# Altium integrated library TE0723.IntLib: 37 symbols
Pins are listed as number, name and electrical type; pins without a type are passive.

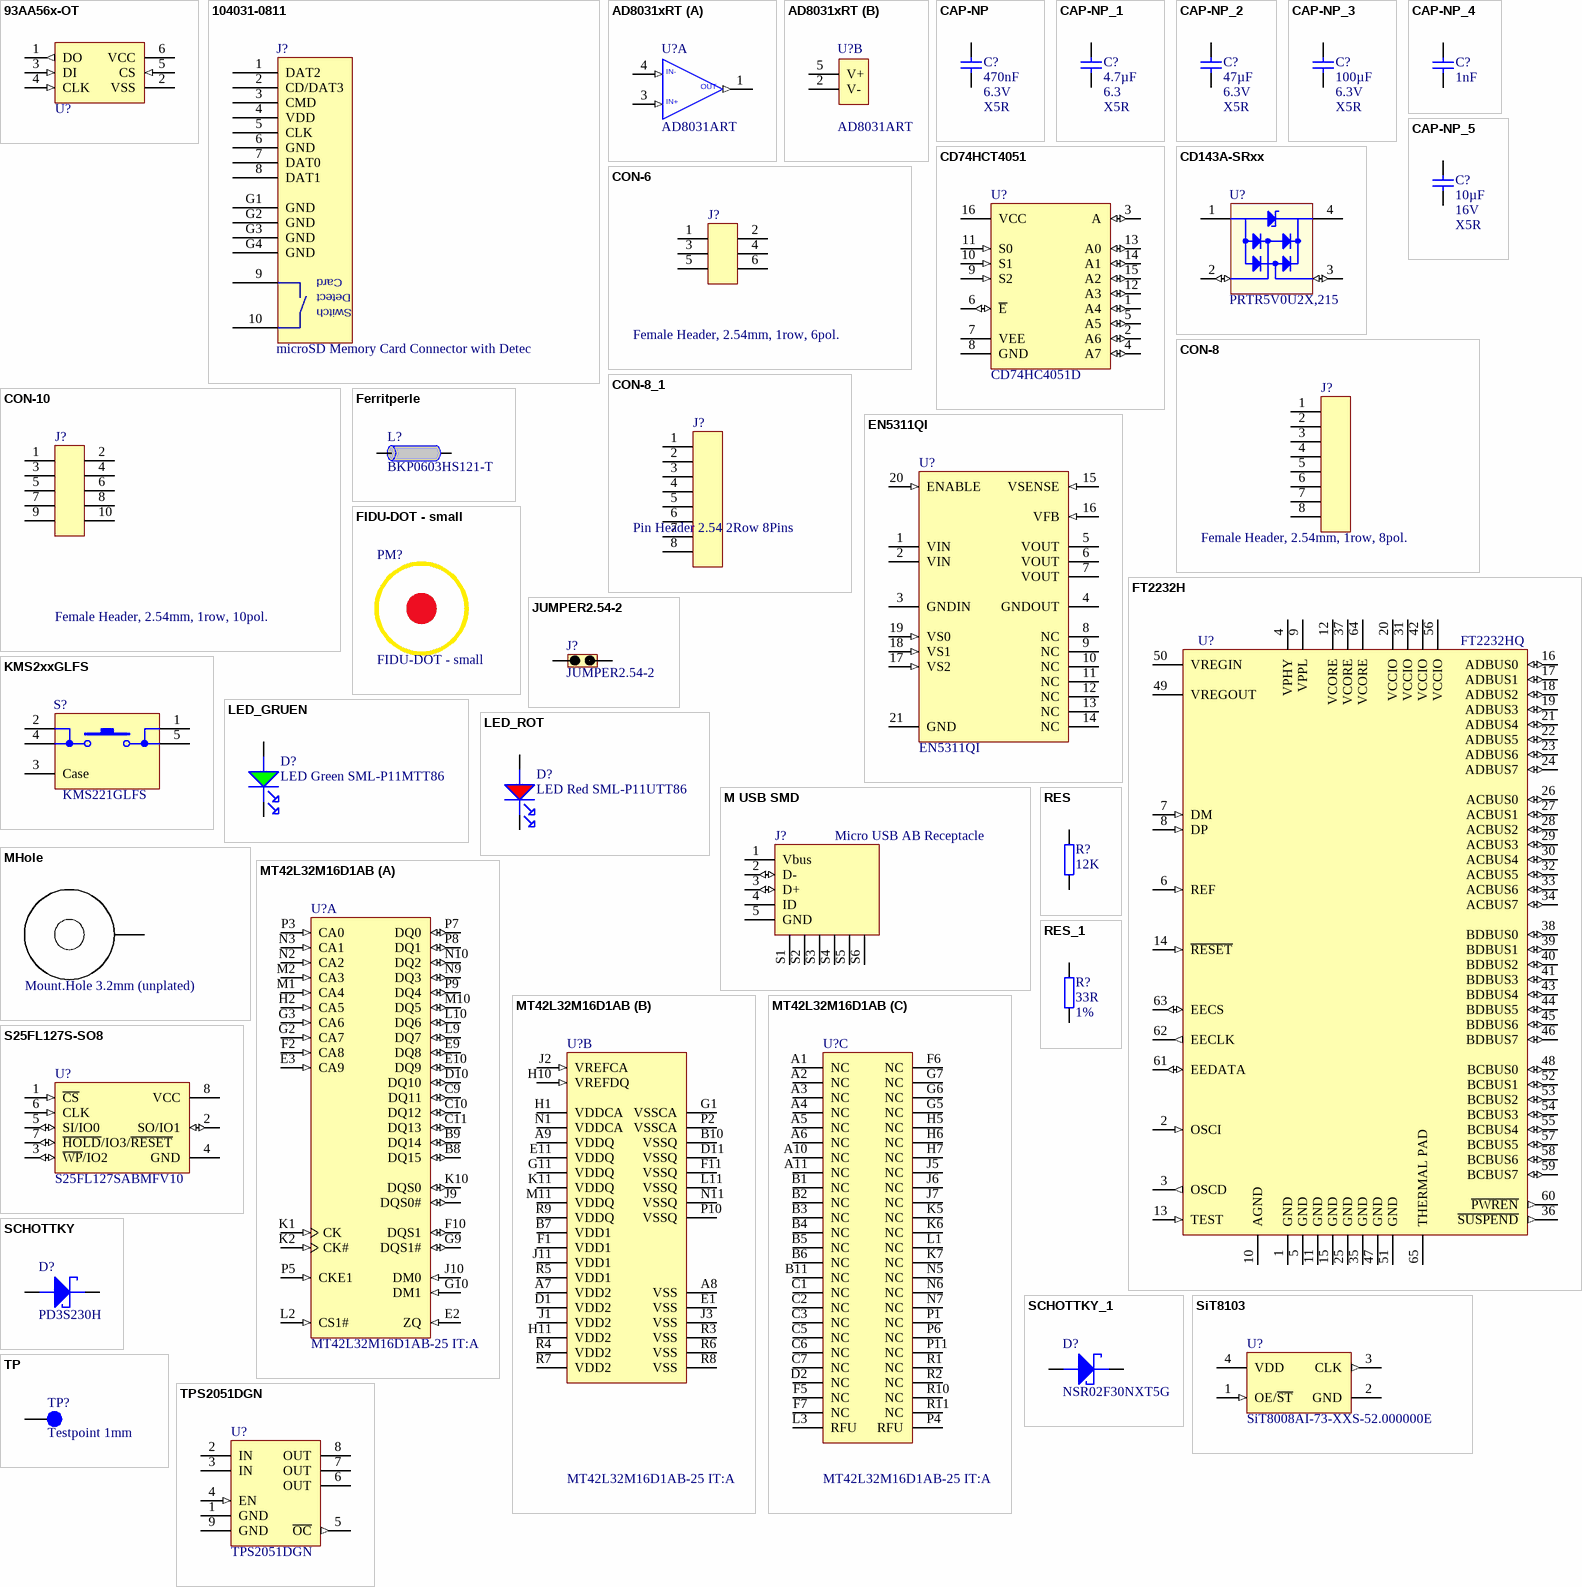
[diagram p0: symbols 93AA56x-OT to TPS2051DGN]

## 93AA56x-OT
designator U?, comment 93AA56BT-I/OT  (value not drawn)
AN: 24730; Trenz-Stock: Yes; Mixed: SMT; Case: SOT23-6; HelpURL: B:\AD\adlib\datasheet\93AA56A; Preferred: Yes
footprint SOT95P280X145-6N
pins: 1 DO (out), 2 VSS (power), 3 DI (in), 4 CLK (in), 5 CS (in), 6 VCC (power)

## 104031-0811
designator J?, comment microSD Memory Card Connector with Detec
microSD Memory Card Connector with Detect Switch; AN: 26322; Mixed: SMT; Trenz-Stock: Yes; Case: microSD; HelpURL: B:\AD\adlib\datasheet\104031-0811
footprint 104031-0811
pins: 1 DAT2, 2 CD/DAT3, 3 CMD, 4 VDD, 5 CLK, 6 GND, 7 DAT0, 8 DAT1, 9 CDSW, 10 CDSW, G1 GND, G2 GND, G3 GND, G4 GND
text: Card; Detect; Switch

## AD8031xRT
designator U?, comment AD8031ART
AN: 25377; Mixed: SMT; Trenz-Stock: Yes; Case: SOT23-5; HelpURL: B:\AD\adlib\datasheet\AD8031
footprint SOT95P280X145-5N
part A pins: 1 OUT (out), 3 IN+ (in), 4 IN- (in)
part B pins: 2 V- (power), 5 V+ (power)

## CAP-NP
designator C?, comment 470nF  Voltage: 6.3V  Technology: X5R
KON 470nF X5R 6.3V SMD 20%; AN: 24921; Value: 470n; Mixed: SMT; Preferred: Yes; Case: 0603 (0201); Tolerance: 20%
footprint CAPC0603X33N
pins: 1, 2

## CAP-NP_1
designator C?, comment 4.7µF  Voltage: 6.3  Technology: X5R
KON 4.7µF 6.3V X5R SMD 20%; AN: 24719; Mixed: SMT; Value: 4.7u; Preferred: Yes; Case: 1005 (0402); Tolerance: 20%
footprint CAPC1005X60N
pins: 1, 2

## CAP-NP_2
designator C?, comment 47µF  Voltage: 6.3V  Technology: X5R
KON 47µF 6,3V  X5R SMD 20%; AN: 24718; Mixed: SMT; Value: 47u; Preferred: Yes; Case: 2012 (0805); Tolerance: 20%
footprint CAPC2012X135N
pins: 1, 2

## CAP-NP_3
designator C?, comment 100µF  Voltage: 6.3V  Technology: X5R
KON 100µF 6,3V X5R SMD 20%; AN: 23116; Mixed: SMT; Value: 100u; Preferred: Yes; Case: 3216 (1206); Tolerance: 20%
footprint CAPC3216X180N
pins: 1, 2

## CAP-NP_4
designator C?, comment 1nF
KON 1nF 50V SMD AEC-Q200; AN: 26184; Tolerance: 10%; Mixed: SMT; Value: 1n; Case: 1005 (0402); Voltage: 50V; Technology: X7R
footprint CAPC1005X55N
pins: 1, 2

## CAP-NP_5
designator C?, comment 10µF  Voltage: 16V  Technology: X5R
KON 10µF 16V X5R SMD 20%; AN: 25341; Mixed: SMT; Value: 10u; Preferred: Yes; Case: 1608 (0603); Tolerance: 20%
footprint CAPC1608X90N
pins: 1, 2

## CD74HCT4051
designator U?, comment CD74HC4051D
AN: 26538; Mixed: SMT; Trenz-Stock: Yes; Case: SOIC16 D (R-PDSO-G16); HelpURL: B:\AD\adlib\datasheet\74HCx4051
footprint SOIC127P600X175-16N
pins: 1 A4 (io), 2 A6 (io), 3 A (io), 4 A7 (io), 5 A5 (io), 6 ~{E} (io), 7 VEE (power), 8 GND (power), 9 S2 (in), 10 S1 (in), 11 S0 (in), 12 A3 (io), 13 A0 (io), 14 A1 (io), 15 A2 (io), 16 VCC (power)

## CD143A-SRxx
designator U?, comment PRTR5V0U2X,215
AN: 24840; Mixed: SMT; Preferred: Yes; Case: SOT143; HelpURL: B:\AD\adlib\datasheet\CD143A-SR05
footprint SOT190P229X114-4N
pins: 1 GND, 2 I/O (io), 3 I/O (io), 4 REF

## CON-6
designator J?, comment Female Header, 2.54mm, 1row, 6pol.
Buchsenleiste 1 reihig präz. 6 pol.; AN: 26388; Mixed: THT
footprint BUCHSENLEISTE-2.54-6-1R
pins: 1, 2, 3, 4, 5, 6
1 alternate drawing of the same symbol

## CON-8
designator J?, comment Female Header, 2.54mm, 1row, 8pol.
Buchsenleiste 1 reihig präz. 8 pol.; AN: 26387; Mixed: THT
footprint BUCHSENLEISTE-2.54-8-1R
pins: 1, 2, 3, 4, 5, 6, 7, 8
1 alternate drawing of the same symbol

## CON-8_1
designator J?, comment Pin Header 2.54 2Row 8Pins
Stiftleiste gerade 2-reihig, 8pol.; AN: 23904; Mixed: THT; Trenz-Stock: Yes
footprint STIFTLEISTE2_54 OG 2R-8
pins: 1, 2, 3, 4, 5, 6, 7, 8
1 alternate drawing of the same symbol

## CON-10
designator J?, comment Female Header, 2.54mm, 1row, 10pol.
Buchsenleiste 1 reihig präz. 10 pol.; AN: 26386; Mixed: THT
footprint BUCHSENLEISTE-2.54-10-1R
pins: 1, 2, 3, 4, 5, 6, 7, 8, 9, 10
1 alternate drawing of the same symbol

## EN5311QI
designator U?
AN: 25492; Mixed: SMT; Trenz-Stock: Yes; Case: QFN20; HelpURL: B:\AD\adlib\datasheet\EN5311QI; Preferred: Yes
footprint EN5311QI
pins: 1 VIN (power), 2 VIN (power), 3 GNDIN (power), 4 GNDOUT (power), 5 VOUT (power), 6 VOUT (power), 7 VOUT (power), 8 NC, 9 NC, 10 NC, 11 NC, 12 NC, 13 NC, 14 NC, 15 VSENSE (in), 16 VFB (in), 17 VS2 (in), 18 VS1 (in), 19 VS0 (in), 20 ENABLE (in), 21 GND (power)

## Ferritperle
designator L?, comment BKP0603HS121-T
Ferritdurchführung SMD 0201; AN: 25393; Trenz-Stock: Yes; Mixed: SMT; Tolerance: 25%; Case: 0603 (0201); HelpURL: B:\AD\adlib\datasheet\MULTILAYER CHIP BEAD INDUCTORS BK; Preferred: Yes
footprint INDC0603X33N
pins: 1, 2

## FIDU-DOT - small
designator PM?
AN: 22905; Mixed: FIDU
footprint FIDU-DOT - small

## FT2232H
designator U?, comment FT2232HQ
AN: 24727; Trenz-Stock: Yes; Mixed: SMT; Case: QFN64; HelpURL: B:\AD\adlib\datasheet\FT2232H; Preferred: Yes
footprint QFN50P900X900X100-65N-445
pins: 1 GND (power), 2 OSCI (in), 3 OSCD (out), 4 VPHY (power), 5 GND (power), 6 REF (in), 7 DM (in), 8 DP (in), 9 VPPL (power), 10 AGND (power), 11 GND (power), 12 VCORE (power), 13 TEST (in), 14 ~{RESET} (in), 15 GND (power), 16 ADBUS0 (io), 17 ADBUS1 (io), 18 ADBUS2 (io), 19 ADBUS3 (io), 20 VCCIO (power), 21 ADBUS4 (io), 22 ADBUS5 (io), 23 ADBUS6 (io), 24 ADBUS7 (io), 25 GND (power), 26 ACBUS0 (io), 27 ACBUS1 (io), 28 ACBUS2 (io), 29 ACBUS3 (io), 30 ACBUS4 (io), 31 VCCIO (power), 32 ACBUS5 (io), 33 ACBUS6 (io), 34 ACBUS7 (io), 35 GND (power), 36 ~{SUSPEND} (out), 37 VCORE (power), 38 BDBUS0 (io), 39 BDBUS1 (io), 40 BDBUS2 (io), 41 BDBUS3 (io), 42 VCCIO (power), 43 BDBUS4 (io), 44 BDBUS5 (io), 45 BDBUS6 (io), 46 BDBUS7 (io), 47 GND (power), 48 BCBUS0 (io), 49 VREGOUT (power), 50 VREGIN (power), 51 GND (power), 52 BCBUS1 (io), 53 BCBUS2 (io), 54 BCBUS3 (io), 55 BCBUS4 (io), 56 VCCIO (power), 57 BCBUS5 (io), 58 BCBUS6 (io), 59 BCBUS7 (io), 60 ~{PWREN} (out), 61 EEDATA (io), 62 EECLK (out), 63 EECS (io), 64 VCORE (power), 65 THERMAL PAD

## JUMPER2.54-2
designator J?
Stiftleiste gerade 1-reihig, 2pol.; AN: 22330; Mixed: THT; Trenz-Stock: Yes
footprint JUMPER2_54-2
pins: 1, 2
1 alternate drawing of the same symbol

## KMS2xxGLFS
designator S?, comment KMS221GLFS
KMS221GLFS - SWITCH, SPST, 0.05A, 32VDC, SMD; AN: 26229; Mixed: SMT; HelpURL: B:\AD\adlib\datasheet\KMS
footprint KMS2xxGLFS
pins: 1, 2, 3 Case, 4, 5

## LED_GRUEN
designator D?, comment LED Green SML-P11MTT86
LED Grün SML-P11MTT86 SMD; AN: 24211; Mixed: SMT; Preferred: Yes; Case: 1005 (0402); HelpURL: B:\AD\adlib\datasheet\SML-P1
footprint LEDC1006X25N_GREEN
pins: A, K

## LED_ROT
designator D?, comment LED Red SML-P11UTT86
LED Rot SML-P11UTT86 SMD; AN: 24212; Mixed: SMT; Preferred: Yes; Case: 1005 (0402); HelpURL: B:\AD\adlib\datasheet\SML-P1
footprint LEDC1006X25N_RED
pins: A, K

## M USB SMD
designator J?, comment Micro USB AB Receptacle
Micro USB AB Buchse; AN: 25126; Mixed: SMT; Trenz-Stock: Yes; Case: Micro USB AB; HelpURL: B:\AD\adlib\datasheet\USB\USB_2.0_Spec\Micro-USB_final
footprint Micro USB ZX62-xx-5PA
pins: 1 Vbus (power), 2 D- (io), 3 D+ (io), 4 ID, 5 GND (power), S1, S2, S3, S4, S5, S6

## MHole
designator H?, comment Mount.Hole 3.2mm (unplated)  (no BOM)
AN: 24910; Mixed: THT
footprint MHole3_2mm-UNPLATED
pins: 1

## MT42L32M16D1AB
designator U?, comment MT42L32M16D1AB-25 IT:A
AN: 26300; Mixed: SMT; Case: BGA121; HelpURL: B:\AD\adlib\datasheet\MT42LxxMxxD1
footprint BGA121C50P15X11_800X650X80B32N
part A pins: B8 DQ15 (io) "Data input/output: Bidirectional data bus.", B9 DQ14 (io) "Data input/output: Bidirectional data bus.", C9 DQ11 (io) "Data input/output: Bidirectional data bus.", C10 DQ12 (io) "Data input/output: Bidirectional data bus.", C11 DQ13 (io) "Data input/output: Bidirectional data bus.", D10 DQ10 (io) "Data input/output: Bidirectional data bus.", E2 ZQ (in) "External impedance (240 ohm): This signal is used to calibrate the device output impedance.", E3 CA9 (in) "Command/address inputs: Provide the command and address inputs according to the command truth table.", E9 DQ8 (io) "Data input/output: Bidirectional data bus.", E10 DQ9 (io) "Data input/output: Bidirectional data bus.", F2 CA8 (in) "Command/address inputs: Provide the command and address inputs according to the command truth table.", F10 DQS1 (io) "Data strobe: The data strobe is bidirectional (used for read and write data) and complementary (DQS and DQS#). It is edge-aligned output with read data and centered input with write data. DQS[1:0]/DQS[1:0]# is DQS for each (See Datasheet)", G2 CA7 (in) "Command/address inputs: Provide the command and address inputs according to the command truth table.", G3 CA6 (in) "Command/address inputs: Provide the command and address inputs according to the command truth table.", G9 DQS1# (io) "Data strobe: The data strobe is bidirectional (used for read and write data) and complementary (DQS and DQS#). It is edge-aligned output with read data and centered input with write data. DQS[1:0]/DQS[1:0]# is DQS for each (See Datasheet)", G10 DM1 (in) "Input data mask: DM is an input mask signal for write data. Although DM balls are input-only, the DM loading is designed to match that of DQ and DQS balls. DM[1:0] is DM for each of the two data bytes, respectively.", H2 CA5 (in) "Command/address inputs: Provide the command and address inputs according to the command truth table.", J9 DQS0# (io) "Data strobe: The data strobe is bidirectional (used for read and write data) and complementary (DQS and DQS#). It is edge-aligned output with read data and centered input with write data. DQS[1:0]/DQS[1:0]# is DQS for each (See Datasheet)", J10 DM0 (in) "Input data mask: DM is an input mask signal for write data. Although DM balls are input-only, the DM loading is designed to match that of DQ and DQS balls. DM[1:0] is DM for each of the two data bytes, respectively.", K1 CK (in) "Clock: CK and CK# are differential clock inputs. All CA inputs are sampled on both rising and falling edges of CK. CS and CKE inputs are sampled at the rising edge of CK. AC timings are referenced to clock.", K2 CK# (in) "Clock: CK and CK# are differential clock inputs. All CA inputs are sampled on both rising and falling edges of CK. CS and CKE inputs are sampled at the rising edge of CK. AC timings are referenced to clock.", K10 DQS0 (io) "Data strobe: The data strobe is bidirectional (used for read and write data) and complementary (DQS and DQS#). It is edge-aligned output with read data and centered input with write data. DQS[1:0]/DQS[1:0]# is DQS for each (See Datasheet)", L2 CS1# (in) "Chip select: CS# is considered part of the command code and is sampled at the rising edge of CK.", L9 DQ7 (io) "Data input/output: Bidirectional data bus.", L10 DQ6 (io) "Data input/output: Bidirectional data bus.", M1 CA4 (in) "Command/address inputs: Provide the command and address inputs according to the command truth table.", M2 CA3 (in) "Command/address inputs: Provide the command and address inputs according to the command truth table.", M10 DQ5 (io) "Data input/output: Bidirectional data bus.", N2 CA2 (in) "Command/address inputs: Provide the command and address inputs according to the command truth table.", N3 CA1 (in) "Command/address inputs: Provide the command and address inputs according to the command truth table.", N9 DQ3 (io) "Data input/output: Bidirectional data bus.", N10 DQ2 (io) "Data input/output: Bidirectional data bus.", P3 CA0 (in) "Command/address inputs: Provide the command and address inputs according to the command truth table.", P5 CKE1 (in) "Clock enable: CKE HIGH activates and CKE LOW deactivates the internal clock signals, input buffers, and output drivers. Power-saving modes are entered and exited via CKE transitions. CKE is considered part of the command (See Datasheet)", P7 DQ0 (io) "Data input/output: Bidirectional data bus.", P8 DQ1 (io) "Data input/output: Bidirectional data bus.", P9 DQ4 (io) "Data input/output: Bidirectional data bus."
part B pins: A7 VDD2 (power) "Core power: Supply 2.", A8 VSS (power) "Common ground", A9 VDDQ (power) "DQ power supply: Isolated on the die for improved noise immunity.", B7 VDD1 (power) "Core power: Supply 1.", B10 VSSQ (power) "DQ ground: Isolated on the die for improved noise immunity.", D1 VDD2 (power) "Core power: Supply 2.", D11 VSSQ (power) "DQ ground: Isolated on the die for improved noise immunity.", E1 VSS (power) "Common ground", E11 VDDQ (power) "DQ power supply: Isolated on the die for improved noise immunity.", F1 VDD1 (power) "Core power: Supply 1.", F11 VSSQ (power) "DQ ground: Isolated on the die for improved noise immunity.", G1 VSSCA (power) "Command/address power supply: Command/address power supply.", G11 VDDQ (power) "DQ power supply: Isolated on the die for improved noise immunity.", H1 VDDCA (power) "Command/address power supply: Command/address power supply.", H10 VREFDQ (in) "Reference voltage:VREFDQ is reference for DQ input buffers.", H11 VDD2 (power) "Core power: Supply 2.", J1 VDD2 (power) "Core power: Supply 2.", J2 VREFCA (in) "Reference voltage: VREFCA is reference for command/address input buffers.", J3 VSS (power) "Common ground", J11 VDD1 (power) "Core power: Supply 1.", K11 VDDQ (power) "DQ power supply: Isolated on the die for improved noise immunity.", L11 VSSQ (power) "DQ ground: Isolated on the die for improved noise immunity.", M11 VDDQ (power) "DQ power supply: Isolated on the die for improved noise immunity.", N1 VDDCA (power) "Command/address power supply: Command/address power supply.", N11 VSSQ (power) "DQ ground: Isolated on the die for improved noise immunity.", P2 VSSCA (power) "Command/address ground: Isolated on the die for improved noise immunity.", P10 VSSQ (power) "DQ ground: Isolated on the die for improved noise immunity.", R3 VSS (power) "Common ground", R4 VDD2 (power) "Core power: Supply 2.", R5 VDD1 (power) "Core power: Supply 1.", R6 VSS (power) "Common ground", R7 VDD2 (power) "Core power: Supply 2.", R8 VSS (power) "Common ground", R9 VDDQ (power) "DQ power supply: Isolated on the die for improved noise immunity."
part C pins: A1 NC "No connect: Not internally connected.", A2 NC "No connect: Not internally connected.", A3 NC "No connect: Not internally connected.", A4 NC "No connect: Not internally connected.", A5 NC "No connect: Not internally connected.", A6 NC "No connect: Not internally connected.", A10 NC "No connect: Not internally connected.", A11 NC "No connect: Not internally connected.", B1 NC "No connect: Not internally connected.", B2 NC "No connect: Not internally connected.", B3 NC "No connect: Not internally connected.", B4 NC "No connect: Not internally connected.", B5 NC "No connect: Not internally connected.", B6 NC "No connect: Not internally connected.", B11 NC "No connect: Not internally connected.", C1 NC "No connect: Not internally connected.", C2 NC "No connect: Not internally connected.", C3 NC "No connect: Not internally connected.", C5 NC "No connect: Not internally connected.", C6 NC "No connect: Not internally connected.", C7 NC "No connect: Not internally connected.", D2 NC "No connect: Not internally connected.", F5 NC "No connect: Not internally connected.", F6 NC "No connect: Not internally connected.", F7 NC "No connect: Not internally connected.", G5 NC "No connect: Not internally connected.", G6 NC "No connect: Not internally connected.", G7 NC "No connect: Not internally connected.", H5 NC "No connect: Not internally connected.", H6 NC "No connect: Not internally connected.", H7 NC "No connect: Not internally connected.", J5 NC "No connect: Not internally connected.", J6 NC "No connect: Not internally connected.", J7 NC "No connect: Not internally connected.", K5 NC "No connect: Not internally connected.", K6 NC "No connect: Not internally connected.", K7 NC "No connect: Not internally connected.", L1 NC "No connect: Not internally connected.", L3 RFU, N5 NC "No connect: Not internally connected.", N6 NC "No connect: Not internally connected.", N7 NC "No connect: Not internally connected.", P1 NC "No connect: Not internally connected.", P4 RFU, P6 NC "No connect: Not internally connected.", P11 NC "No connect: Not internally connected.", R1 NC "No connect: Not internally connected.", R2 NC "No connect: Not internally connected.", R10 NC "No connect: Not internally connected.", R11 NC "No connect: Not internally connected."

## RES
designator R?, comment 12K
WID SMD 12K 1% 0,063W; AN: 22598; Mixed: SMT; Preferred: Yes; Case: 1005 (0402); Value: 12K
footprint RESC1005X40N
pins: 1, 2

## RES_1
designator R?, comment 33R  Tolerance: 1%
WID SMD 33R 1% 0,05W; AN: 25021; Value: 33; Mixed: SMT; Preferred: Yes; Case: 0603 (0201); HelpURL: B:\AD\adlib\datasheet\R0201
footprint RESC0603X26N
pins: 1, 2

## S25FL127S-SO8
designator U?, comment S25FL127SABMFV10
S25FL127SABMFV10 automotive SO8; AN: 26078; Mixed: SMT; Case: SO8W; HelpURL: B:\AD\adlib\datasheet\S25FL12xS
footprint SOIC127P790X216-8N
pins: 1 ~{CS} (in), 2 SO/IO1 (io), 3 ~{WP}/IO2 (io), 4 GND (power), 5 SI/IO0 (io), 6 CLK (in), 7 ~{HOLD}/IO3/~{RESET} (io), 8 VCC (power)

## SCHOTTKY
designator D?, comment PD3S230H
AN: 24682; Mixed: SMT; Case: PowerDI323; HelpURL: B:\AD\adlib\datasheet\PD3S230H
footprint PowerDI323
pins: 1 KATHODE, 2 ANODE

## SCHOTTKY_1
designator D?, comment NSR02F30NXT5G
AN: 26175; Mixed: SMT; Trenz-Stock: Yes; Case: DSN2 - 0201; HelpURL: B:\ad\adlib\datasheet\NSR02F30NXT5G
footprint DIOC0603X30N
pins: 1 KATHODE, 2 ANODE

## SiT8103
designator U?, comment SiT8008AI-73-XXS-52.000000E
SiT8008AI-73-XXS-52.000000E MEMS Oszillator 52MHz; AN: 25009; Value: 52M; Trenz-Stock: Yes; Mixed: SMT; Case: 2.0  x 1.6mm; HelpURL: B:\AD\adlib\datasheet\SiT8008; Preferred: Yes
footprint 2016
pins: 1 OE/~{ST} (in), 2 GND (power), 3 CLK (out), 4 VDD (power)

## TP
designator TP?, comment Testpoint 1mm
AN: 25063; Mixed: SMT
footprint TP_1mm
pins: 1

## TPS2051DGN
designator U?
TPS2051BDGN; AN: 25167; Trenz-Stock: Yes; Mixed: SMT; HelpURL: B:\AD\adlib\datasheet\TPS2051BDGN; Preferred: Yes
footprint SOP65P488X107-9N-TI
pins: 1 GND (power), 2 IN (power), 3 IN (power), 4 EN (in), 5 ~{OC} (out), 6 OUT (power), 7 OUT (power), 8 OUT (power), 9 GND (power)

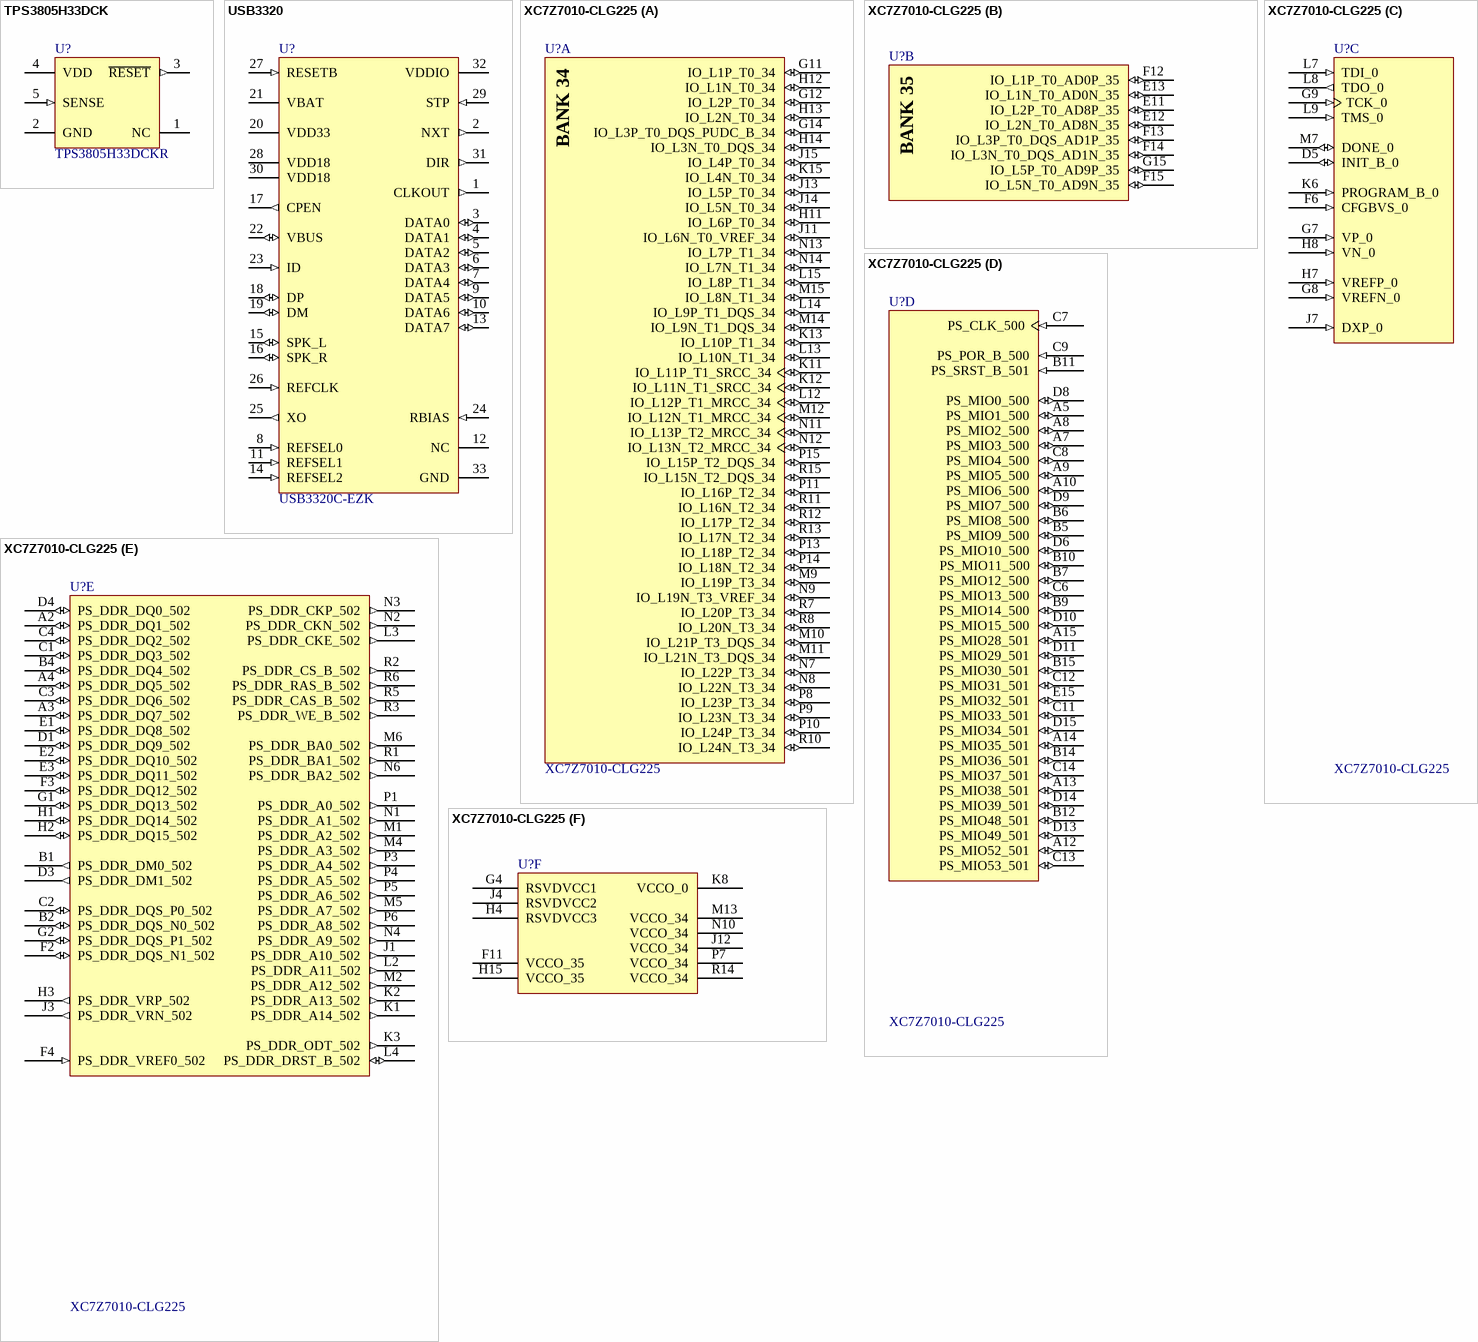
[diagram p1: symbols TPS3805H33DCK to XC7Z7010-CLG225]

## TPS3805H33DCK
designator U?, comment TPS3805H33DCKR
AN: 25049; Mixed: SMT; Trenz-Stock: Yes; Case: SC70-5 / SC88A / SOT353; HelpURL: B:\AD\adlib\datasheet\TPS3805H33; Preferred: Yes
footprint SOT65P210X110-5N
pins: 1 NC, 2 GND (power), 3 ~{RESET} (out), 4 VDD (power), 5 SENSE (in)

## USB3320
designator U?, comment USB3320C-EZK
AN: 24992; Trenz-Stock: Yes; Mixed: SMT; Case: QFN32; HelpURL: B:\AD\adlib\datasheet\USB3320
footprint QFN50P500X500X100-33N-345
pins: 1 CLKOUT (out), 2 NXT (out), 3 DATA0 (io), 4 DATA1 (io), 5 DATA2 (io), 6 DATA3 (io), 7 DATA4 (io), 8 REFSEL0 (in), 9 DATA5 (io), 10 DATA6 (io), 11 REFSEL1 (in), 12 NC, 13 DATA7 (io), 14 REFSEL2 (in), 15 SPK_L (io), 16 SPK_R (io), 17 CPEN (out), 18 DP (io), 19 DM (io), 20 VDD33 (power), 21 VBAT (power), 22 VBUS (io), 23 ID (in), 24 RBIAS (in), 25 XO (out), 26 REFCLK (in), 27 RESETB (in), 28 VDD18 (power), 29 STP (in), 30 VDD18 (power), 31 DIR (out), 32 VDDIO (power), 33 GND (power)

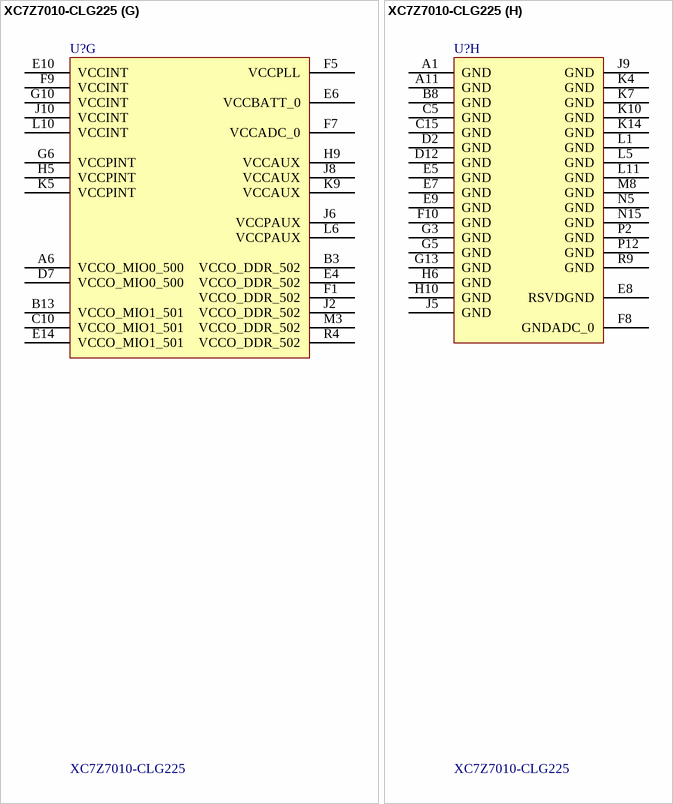
[diagram p2: symbol XC7Z7010-CLG225]

## XC7Z7010-CLG225
designator U?
part A pins: G11 IO_L1P_T0_34 (io), G12 IO_L2P_T0_34 (io), G14 IO_L3P_T0_DQS_PUDC_B_34 (io), H11 IO_L6P_T0_34 (io), H12 IO_L1N_T0_34 (io), H13 IO_L2N_T0_34 (io), H14 IO_L3N_T0_DQS_34 (io), J11 IO_L6N_T0_VREF_34 (io), J13 IO_L5P_T0_34 (io), J14 IO_L5N_T0_34 (io), J15 IO_L4P_T0_34 (io), K11 IO_L11P_T1_SRCC_34 (io), K12 IO_L11N_T1_SRCC_34 (io), K13 IO_L10P_T1_34 (io), K15 IO_L4N_T0_34 (io), L12 IO_L12P_T1_MRCC_34 (io), L13 IO_L10N_T1_34 (io), L14 IO_L9P_T1_DQS_34 (io), L15 IO_L8P_T1_34 (io), M9 IO_L19P_T3_34 (io), M10 IO_L21P_T3_DQS_34 (io), M11 IO_L21N_T3_DQS_34 (io), M12 IO_L12N_T1_MRCC_34 (io), M14 IO_L9N_T1_DQS_34 (io), M15 IO_L8N_T1_34 (io), N7 IO_L22P_T3_34 (io), N8 IO_L22N_T3_34 (io), N9 IO_L19N_T3_VREF_34 (io), N11 IO_L13P_T2_MRCC_34 (io), N12 IO_L13N_T2_MRCC_34 (io), N13 IO_L7P_T1_34 (io), N14 IO_L7N_T1_34 (io), P8 IO_L23P_T3_34 (io), P9 IO_L23N_T3_34 (io), P10 IO_L24P_T3_34 (io), P11 IO_L16P_T2_34 (io), P13 IO_L18P_T2_34 (io), P14 IO_L18N_T2_34 (io), P15 IO_L15P_T2_DQS_34 (io), R7 IO_L20P_T3_34 (io), R8 IO_L20N_T3_34 (io), R10 IO_L24N_T3_34 (io), R11 IO_L16N_T2_34 (io), R12 IO_L17P_T2_34 (io), R13 IO_L17N_T2_34 (io), R15 IO_L15N_T2_DQS_34 (io)
part B pins: E11 IO_L2P_T0_AD8P_35 (io), E12 IO_L2N_T0_AD8N_35 (io), E13 IO_L1N_T0_AD0N_35 (io), F12 IO_L1P_T0_AD0P_35 (io), F13 IO_L3P_T0_DQS_AD1P_35 (io), F14 IO_L3N_T0_DQS_AD1N_35 (io), F15 IO_L5N_T0_AD9N_35 (io), G15 IO_L5P_T0_AD9P_35 (io)
part C pins: D5 INIT_B_0 (io), F6 CFGBVS_0 (in), G7 VP_0 (in), G8 VREFN_0 (in), G9 TCK_0 (in), H7 VREFP_0 (in), H8 VN_0 (in), J7 DXP_0 (in), K6 PROGRAM_B_0 (in), L7 TDI_0 (in), L8 TDO_0 (out), L9 TMS_0 (in), M7 DONE_0 (io)
part D pins: A5 PS_MIO1_500 (io), A7 PS_MIO3_500 (io), A8 PS_MIO2_500 (io), A9 PS_MIO5_500 (io), A10 PS_MIO6_500 (io), A12 PS_MIO52_501 (io), A13 PS_MIO38_501 (io), A14 PS_MIO35_501 (io), A15 PS_MIO28_501 (io), B5 PS_MIO9_500 (io), B6 PS_MIO8_500 (io), B7 PS_MIO12_500 (io), B9 PS_MIO14_500 (io), B10 PS_MIO11_500 (io), B11 PS_SRST_B_501 (in), B12 PS_MIO48_501 (io), B14 PS_MIO36_501 (io), B15 PS_MIO30_501 (io), C6 PS_MIO13_500 (io), C7 PS_CLK_500 (in), C8 PS_MIO4_500 (io), C9 PS_POR_B_500 (in), C11 PS_MIO33_501 (io), C12 PS_MIO31_501 (io), C13 PS_MIO53_501 (io), C14 PS_MIO37_501 (io), D6 PS_MIO10_500 (io), D8 PS_MIO0_500 (io), D9 PS_MIO7_500 (io), D10 PS_MIO15_500 (io), D11 PS_MIO29_501 (io), D13 PS_MIO49_501 (io), D14 PS_MIO39_501 (io), D15 PS_MIO34_501 (io), E15 PS_MIO32_501 (io)
part E pins: A2 PS_DDR_DQ1_502 (io), A3 PS_DDR_DQ7_502 (io), A4 PS_DDR_DQ5_502 (io), B1 PS_DDR_DM0_502 (out), B2 PS_DDR_DQS_N0_502 (io), B4 PS_DDR_DQ4_502 (io), C1 PS_DDR_DQ3_502 (io), C2 PS_DDR_DQS_P0_502 (io), C3 PS_DDR_DQ6_502 (io), C4 PS_DDR_DQ2_502 (io), D1 PS_DDR_DQ9_502 (io), D3 PS_DDR_DM1_502 (out), D4 PS_DDR_DQ0_502 (io), E1 PS_DDR_DQ8_502 (io), E2 PS_DDR_DQ10_502 (io), E3 PS_DDR_DQ11_502 (io), F2 PS_DDR_DQS_N1_502 (io), F3 PS_DDR_DQ12_502 (io), F4 PS_DDR_VREF0_502 (in), G1 PS_DDR_DQ13_502 (io), G2 PS_DDR_DQS_P1_502 (io), H1 PS_DDR_DQ14_502 (io), H2 PS_DDR_DQ15_502 (io), H3 PS_DDR_VRP_502 (out), J1 PS_DDR_A10_502 (out), J3 PS_DDR_VRN_502 (out), K1 PS_DDR_A14_502 (out), K2 PS_DDR_A13_502 (out), K3 PS_DDR_ODT_502 (out), L2 PS_DDR_A11_502 (out), L3 PS_DDR_CKE_502 (out), L4 PS_DDR_DRST_B_502 (io), M1 PS_DDR_A2_502 (out), M2 PS_DDR_A12_502 (out), M4 PS_DDR_A3_502 (out), M5 PS_DDR_A7_502 (out), M6 PS_DDR_BA0_502 (out), N1 PS_DDR_A1_502 (out), N2 PS_DDR_CKN_502 (out), N3 PS_DDR_CKP_502 (out), N4 PS_DDR_A9_502 (out), N6 PS_DDR_BA2_502 (out), P1 PS_DDR_A0_502 (out), P3 PS_DDR_A4_502 (out), P4 PS_DDR_A5_502 (out), P5 PS_DDR_A6_502 (out), P6 PS_DDR_A8_502 (out), R1 PS_DDR_BA1_502 (out), R2 PS_DDR_CS_B_502 (out), R3 PS_DDR_WE_B_502 (out), R5 PS_DDR_CAS_B_502 (out), R6 PS_DDR_RAS_B_502 (out)
part F pins: F11 VCCO_35 (power), G4 RSVDVCC1 (power), H4 RSVDVCC3 (power), H15 VCCO_35 (power), J4 RSVDVCC2 (power), J12 VCCO_34 (power), K8 VCCO_0 (power), M13 VCCO_34 (power), N10 VCCO_34 (power), P7 VCCO_34 (power), R14 VCCO_34 (power)
part G pins: A6 VCCO_MIO0_500 (power), B3 VCCO_DDR_502 (power), B13 VCCO_MIO1_501 (power), C10 VCCO_MIO1_501 (power), D7 VCCO_MIO0_500 (power), E4 VCCO_DDR_502 (power), E6 VCCBATT_0 (power), E10 VCCINT (power), E14 VCCO_MIO1_501 (power), F1 VCCO_DDR_502 (power), F5 VCCPLL (power), F7 VCCADC_0 (power), F9 VCCINT (power), G6 VCCPINT (power), G10 VCCINT (power), H5 VCCPINT (power), H9 VCCAUX (power), J2 VCCO_DDR_502 (power), J6 VCCPAUX (power), J8 VCCAUX (power), J10 VCCINT (power), K5 VCCPINT (power), K9 VCCAUX (power), L6 VCCPAUX (power), L10 VCCINT (power), M3 VCCO_DDR_502 (power), R4 VCCO_DDR_502 (power)
part H pins: A1 GND (power), A11 GND (power), B8 GND (power), C5 GND (power), C15 GND (power), D2 GND (power), D12 GND (power), E5 GND (power), E7 GND (power), E8 RSVDGND (power), E9 GND (power), F8 GNDADC_0 (power), F10 GND (power), G3 GND (power), G5 GND (power), G13 GND (power), H6 GND (power), H10 GND (power), J5 GND (power), J9 GND (power), K4 GND (power), K7 GND (power), K10 GND (power), K14 GND (power), L1 GND (power), L5 GND (power), L11 GND (power), M8 GND (power), N5 GND (power), N15 GND (power), P2 GND (power), P12 GND (power), R9 GND (power)
part A text: BANK 34
part B text: BANK 35